# Altium schematic symbol library CL32A226KOJNNNE.SchLib: 1 symbol
Pins are listed as number, name and electrical type; pins without a type are passive.

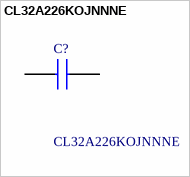
[diagram p0: symbol CL32A226KOJNNNE]

## CL32A226KOJNNNE
designator C?
Samsung Electro-Mechanics 1210 CL 22uF Ceramic Multilayer Capacitor, 16 V, +85C, X5R Dielectric, +/-10% SMD; Geometry.Height: 2.7mm; Mouser Part Number: *; Mouser Price/Stock: *; Manufacturer_Name: SAMSUNG; Manufacturer_Part_Number: CL32A226KOJNNNE; Datasheet Link: https://ad.componentsearchengine.com/Datasheets/2/CL32A226KOJNNNE.pdf
footprint CAPC3225X270N
pins: 1, 2